# Altium footprint library AI-1223-TWT-5V-5-R.PcbLib: 1 footprints
Each footprint in its own frame and in the unit in brackets; x right, y up, seen from the top. Pads: shape width x height; smd on the part's side, far side on the other; paste and mask are expansions set on the pad; w line width, h text height; cw(c..) or ccw(c..) is an arc to the next point about the centre after c.
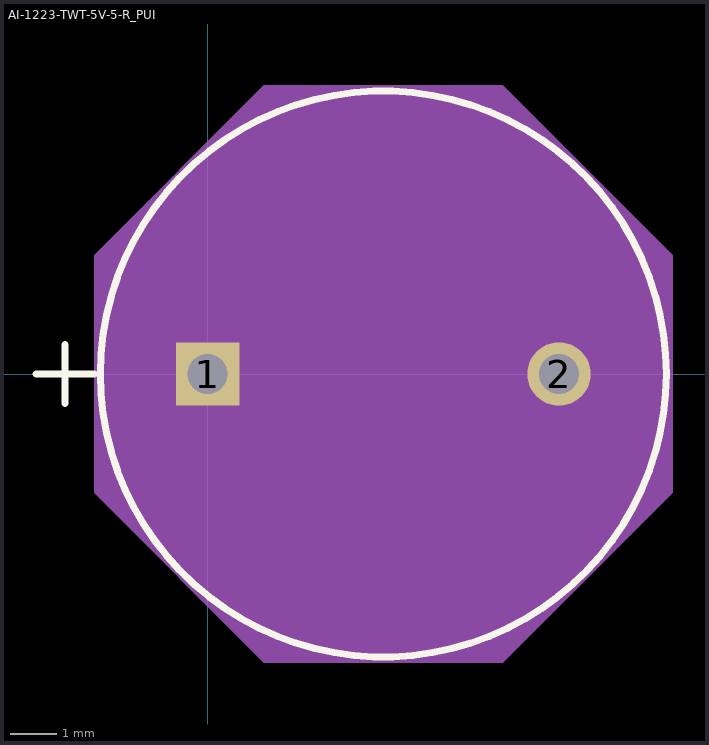
[diagram p0: the footprint, top view; thin cyan lines are the x and y axes]

## AI-1223-TWT-5V-5-R_PUI [mil]
pads (2):
  rect 54x54 / inner round 60 / far side rect 54x54 hole 34 paste-27 mask+0: 1(0,0)
  round 54 / inner round 60 / far side round 54 hole 34 paste-27 mask+0: 2(299.21,0)
Top Overlay:
  circle w6: c149.61,0 r241
  lines w6: -146.39,0 -96.39,0 ; -121.39,-25 -121.39,25
Mechanical 13:
  circle w0: c149.61,0 r236
  lines w1: -146.39,0 -96.39,0 ; -121.39,-25 -121.39,25
Mechanical 15:
  region: -96.39,101.29 48.31,246 250.9,246 395.61,101.29 395.61,-101.29 250.9,-246 48.31,-246 -96.39,-101.29
  lines w1: -96.39,-101.29 48.31,-246 250.9,-246 395.61,-101.29 395.61,101.29 250.9,246 48.31,246 -96.39,101.29 -96.39,-101.29
3D body "AI-1223-TWT-5V-5-R_PUI.step": height 374.61, standoff -172.01, extent -86.38,-235.88 387,235.88